# Altium schematic symbol library GRT31CR61H106ME01L.SchLib: 1 symbol
Pins are listed as number, name and electrical type; pins without a type are passive.

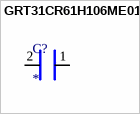
[diagram p0: symbol GRT31CR61H106ME01L]

## GRT31CR61H106ME01L
designator C?
1206 10 uF 50 V Â±20% Tolerance X5R Multilayer Ceramic Capacitor; MP: GRT31CR61H106ME01L; MF: {'manufacturer': u'Murata Electronics'}; Price: None; Package: None; Availability: Unavailable; Value: *
footprint CAP3216X125N
pins: 1, 2